# Altium footprint library PCB_Lib.PcbLib: 286 footprints (part 6 of 18)
Each footprint in its own frame and in the unit in brackets; x right, y up, seen from the top. Pads: shape width x height; smd on the part's side, far side on the other; paste and mask are expansions set on the pad; w line width, h text height; cw(c..) or ccw(c..) is an arc to the next point about the centre after c.
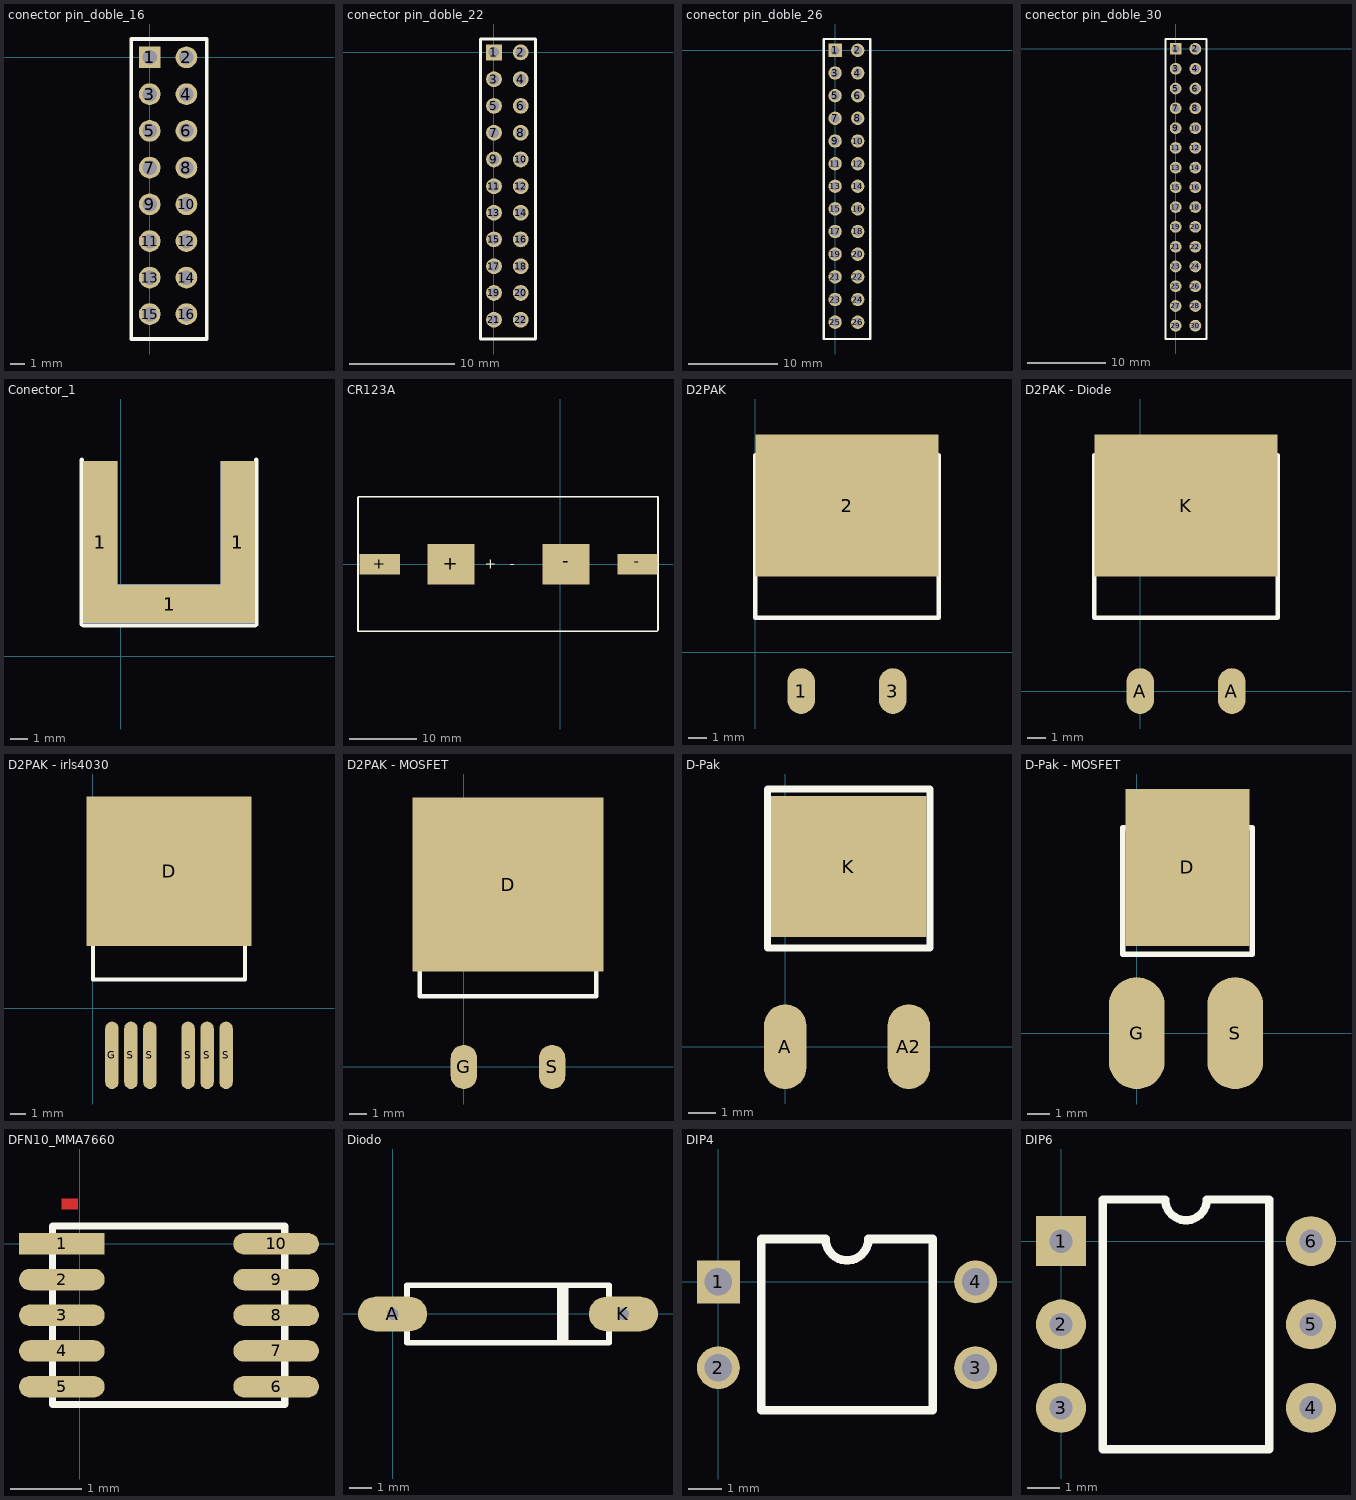
[diagram p5: the footprints below, top view; thin cyan lines are the x and y axes]

## conector pin_doble_16 [mm]
pads (16):
  rect 1.5x1.5 hole 1: 1(0,0)
  round 1.5 hole 1: 2(2.54,0) 3(0,-2.54) 4(2.54,-2.54) 5(0,-5.08) 6(2.54,-5.08) 7(0,-7.62) 8(2.54,-7.62) 9(0,-10.16) 10(2.54,-10.16) 11(0,-12.7) 12(2.54,-12.7) 13(0,-15.225) 14(2.54,-15.225) 15(0,-17.75) 16(2.54,-17.75)
Top Overlay:
  lines w0.254: 0.635,1.27 3.937,1.27 3.937,-19.475 -1.27,-19.475 -1.27,1.27 1.905,1.27

## conector pin_doble_22 [mm]
pads (22):
  rect 1.5x1.5 hole 1: 1(0,0)
  round 1.5 hole 1: 2(2.54,0) 3(0,-2.54) 4(2.54,-2.54) 5(0,-5.08) 6(2.54,-5.08) 7(0,-7.62) 8(2.54,-7.62) 9(0,-10.16) 10(2.54,-10.16) 11(0,-12.7) 12(2.54,-12.7) 13(0,-15.225) 14(2.54,-15.225) 15(0,-17.75) 16(2.54,-17.75) 17(0,-20.29) 18(2.54,-20.29) 19(0,-22.83) 20(2.54,-22.83) 21(0,-25.37) 22(2.54,-25.37)
Top Overlay:
  lines w0.254: 0.635,1.27 3.937,1.27 3.937,-27.203 -1.27,-27.203 -1.27,1.27 1.905,1.27

## conector pin_doble_26 [mm]
pads (26):
  rect 1.5x1.5 hole 1: 1(0,0)
  round 1.5 hole 1: 2(2.54,0) 3(0,-2.54) 4(2.54,-2.54) 5(0,-5.08) 6(2.54,-5.08) 7(0,-7.62) 8(2.54,-7.62) 9(0,-10.16) 10(2.54,-10.16) 11(0,-12.7) 12(2.54,-12.7) 13(0,-15.225) 14(2.54,-15.225) 15(0,-17.75) 16(2.54,-17.75) 17(0,-20.29) 18(2.54,-20.29) 19(0,-22.83) 20(2.54,-22.83) 21(0,-25.37) 22(2.54,-25.37) 23(0,-27.91) 24(2.54,-27.91) 25(0,-30.45) 26(2.54,-30.45)
Top Overlay:
  lines w0.254: 0.635,1.27 3.937,1.27 3.937,-32.334 -1.27,-32.334 -1.27,1.27 1.905,1.27

## conector pin_doble_30 [mm]
pads (30):
  rect 1.5x1.5 hole 1: 1(0,0)
  round 1.5 hole 1: 2(2.54,0) 3(0,-2.54) 4(2.54,-2.54) 5(0,-5.08) 6(2.54,-5.08) 7(0,-7.62) 8(2.54,-7.62) 9(0,-10.16) 10(2.54,-10.16) 11(0,-12.7) 12(2.54,-12.7) 13(0,-15.225) 14(2.54,-15.225) 15(0,-17.75) 16(2.54,-17.75) 17(0,-20.29) 18(2.54,-20.29) 19(0,-22.83) 20(2.54,-22.83) 21(0,-25.37) 22(2.54,-25.37) 23(0,-27.91) 24(2.54,-27.91) 25(0,-30.45) 26(2.54,-30.45) 27(0,-32.975) 28(2.54,-32.975) 29(0,-35.5) 30(2.54,-35.5)
Top Overlay:
  lines w0.254: 0.635,1.27 3.937,1.27 3.937,-37.211 -1.27,-37.211 -1.27,1.27 1.905,1.27

## Conector_1 [mm]
pads (6):
  rect 2x9.5 smd: 1(-1.2,6.65) 1(6.825,6.65)
  rect 2x9.5 smd far side: 1(-1.2,6.65) 1(6.825,6.65)
  rect 7.5x2.3 smd: 1(2.85,3.05)
  rect 7.5x2.3 smd far side: 1(2.85,3.05)
Top Overlay:
  lines w0.254: -2.275,11.475 -2.275,1.875 ; 7.9,11.475 7.9,1.85 ; -2.275,1.875 -2.2,1.8 ; -2.275,1.875 -2.2,1.8 ; -2.2,1.8 7.85,1.8 ; 7.85,1.8 7.9,1.85 ; 7.85,1.8 7.9,1.85

## CR123A [mm]
pads (4):
  rect 6x3 smd: +(-26.85,-0.025) -(11.475,-0.025)
  rect 7x6 smd: +(-16.25,-0.025) -(0.875,-0.025)
Top Layer:
  text "+   -" at -11.2,-0.675 h1.52
Top Overlay:
  lines w0.254: -30.075,-9.975 -30.075,9.95 -30,10.025 14.525,10.025 14.525,-0.2 14.525,-9.825 14.375,-9.975 -30.075,-9.975
  text "+   -" at -11.2,-0.675 h1.52

## D2PAK [mil] "TO220-superficie"
pads (3):
  oval 60x100 smd: 1(100,-85) 3(300,-85)
  rect 400x310 smd: 2(200,320)
Top Overlay:
  lines w10: 0,75 0,430 400,430 400,75 0,75

## D2PAK - Diode [mil] "TO220-superficie"
pads (3):
  oval 60x100 smd: A(0,0) A(200,0)
  rect 400x310 smd: K(100,405)
Top Overlay:
  lines w10: -100,160 300,160 300,515 -100,515 -100,160

## D2PAK - irls4030 [mm] "TO220-superficie"
pads (7):
  rect 11x10 smd: D(5.08,9.128)
  oval 0.9x4.5 smd: G(1.27,-3.159) S(2.54,-3.159) S(3.81,-3.159) S(6.35,-3.159) S(7.62,-3.159) S(8.89,-3.159)
Top Overlay:
  lines w0.254: 0,1.905 10.16,1.905 10.16,10.922 0,10.922 0,1.905

## D2PAK - MOSFET [mm] "TO220-superficie"
pads (3):
  rect 11x10 smd: D(2.54,10.5)
  oval 1.524x2.54 smd: G(0,0) S(5.08,0)
Top Overlay:
  lines w0.254: -2.54,4.064 7.62,4.064 7.62,13.081 -2.54,13.081 -2.54,4.064

## D-Pak [mil]
pads (3):
  oval 60x120 smd: A(0,0) A2(175,0)
  rect 220x200 smd: K(90,255)
Top Overlay:
  lines w10: -25,140 -25,365 205,365 205,140 -25,140

## D-Pak - MOSFET [mil]
pads (3):
  rect 220x278.74 smd: D(90,294.37)
  oval 99.37x198.74 smd: G(0,0) S(175,0)
Top Overlay:
  lines w10: -25,140 205,140 205,365 -25,365 -25,140

## DFN10_MMA7660 [mm]
pads (10):
  rect 1.2x0.3 smd: 1(-0.25,0)
  oval 1.2x0.3 smd: 2(-0.25,-0.5) 3(-0.25,-1) 4(-0.25,-1.5) 5(-0.25,-2) 6(2.75,-2) 7(2.75,-1.5) 8(2.75,-1) 9(2.75,-0.5) 10(2.75,0)
Top Layer:
  rectangle: -0.254,0.483 -0.025,0.635
Top Overlay:
  lines w0.1: 0.864,0.25 2.87,0.25 2.87,-2.25 -0.381,-2.25 -0.381,0.25 1.125,0.25

## Diodo [mil] "Diodo"
pads (2):
  oval 120x60 hole 20: A(0,0) K(400,0)
Top Overlay:
  lines w10: 290,-50 290,50 ; 300,-50 300,50 ; 25,-50 375,-50 375,50 25,50 25,0 25,-50

## DIP4 [mil]
pads (4):
  rect 50x50 hole 32: 1(0,0)
  round 50 hole 32: 2(0,-100) 3(300,-100) 4(300,0)
Top Overlay:
  lines w10: 50,-150 250,-150 250,50 175,50 cw(c150,50) 125,50 50,50 50,-150

## DIP6 [mil]
pads (6):
  rect 60x60 hole 28: 1(0,0)
  round 60 hole 28: 2(0,-100) 3(0,-200) 4(300,-200) 5(300,-100) 6(300,0)
Top Overlay:
  lines w10: 50,-250 250,-250 250,50 175,50 cw(c150,50) 125,50 50,50 50,-250